# Altium footprint library ROBOCAM_1.PcbLib: 116 footprints (part 2 of 8)
Each footprint in its own frame and in the unit in brackets; x right, y up, seen from the top. Pads: shape width x height; smd on the part's side, far side on the other; paste and mask are expansions set on the pad; w line width, h text height; cw(c..) or ccw(c..) is an arc to the next point about the centre after c.
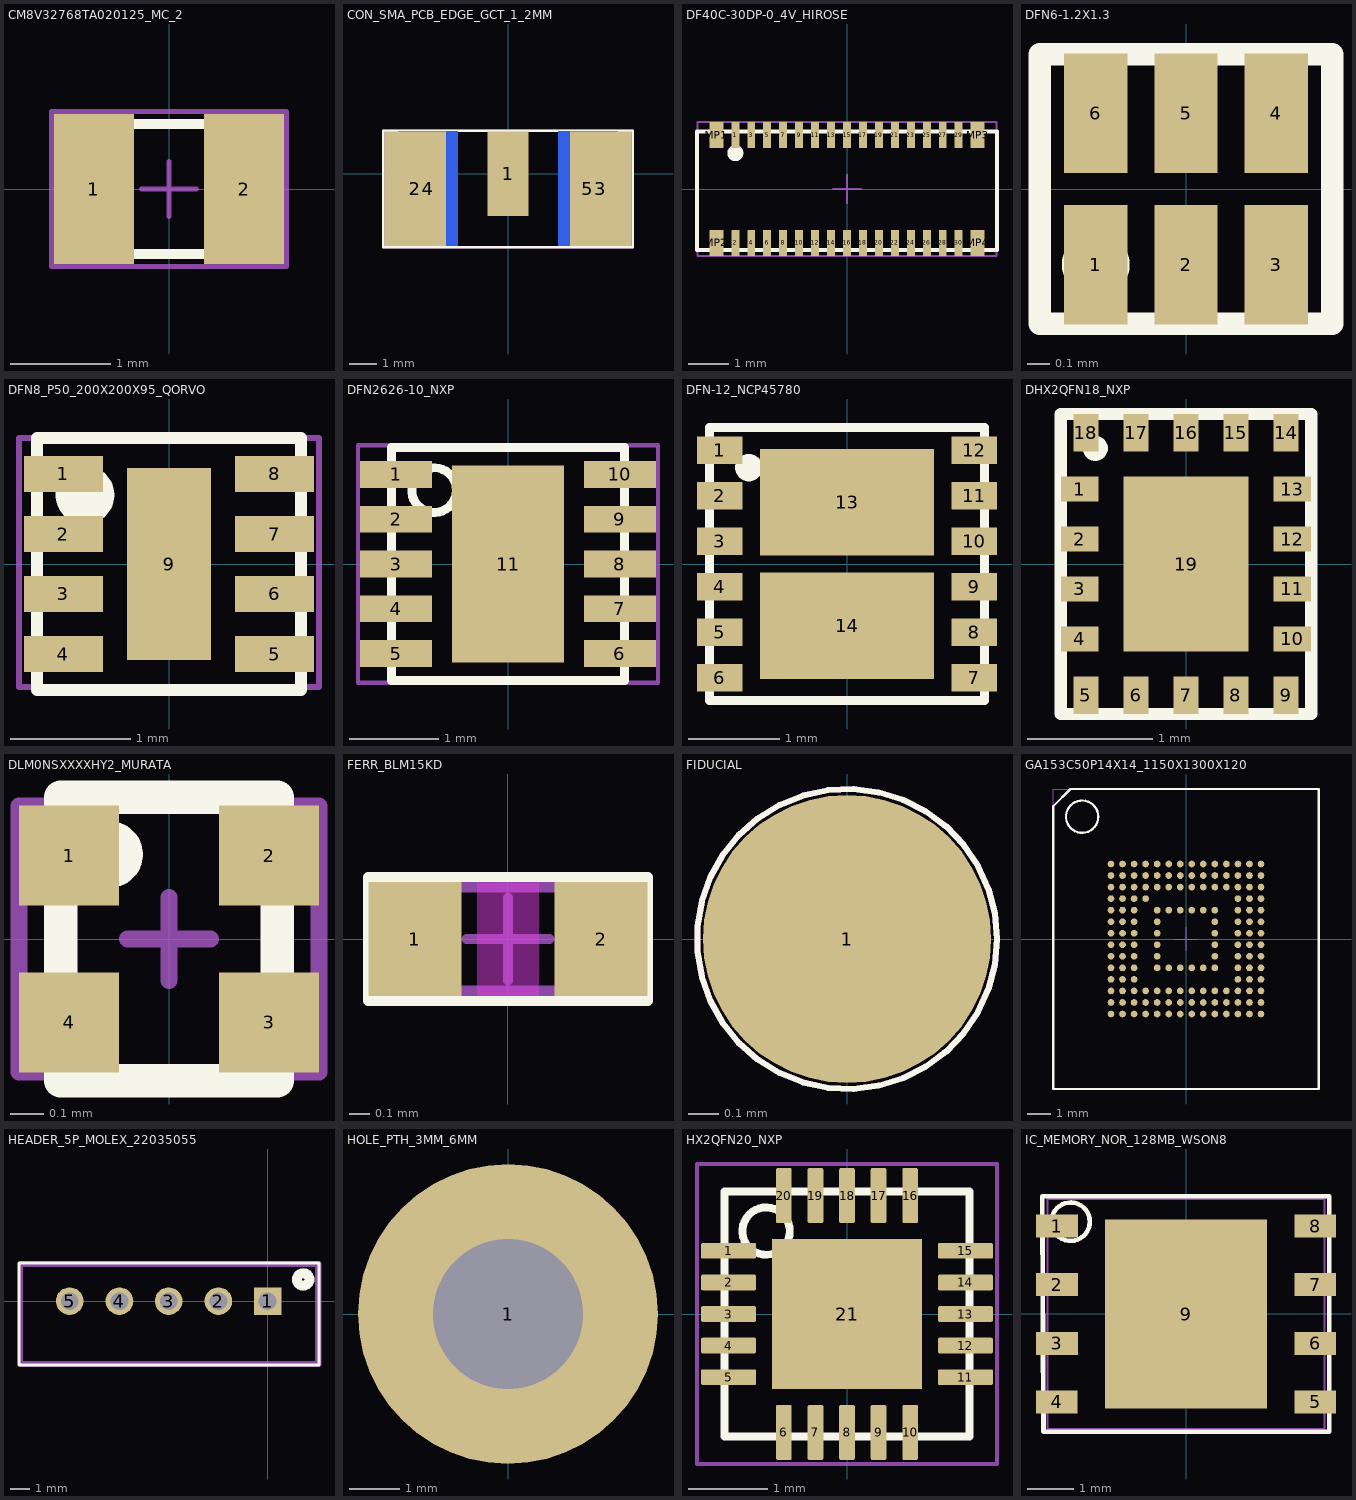
[diagram p1: the footprints below, top view; thin cyan lines are the x and y axes]

## CM8V32768TA020125_MC_2 [mm]
pads (2):
  rect 0.8x1.5 smd paste+0 mask+0.06: 1(-0.75,0) 2(0.75,0)
Top Overlay:
  lines w0.1: -1.05,-0.65 -1.05,0.65 1.025,0.65 1.025,-0.65 -1.05,-0.65
Top Courtyard:
  lines w0.05: -0.275,0 0.275,0 ; 0,-0.275 0,0.275 ; -1.175,-0.775 -1.175,0.775 1.175,0.775 1.175,-0.775 -1.175,-0.775
Top Designator:
  text ".Designator" at -7.618,-0.508 h1.52
3D body "CM8V-T1A.stp": height 0.63, standoff 0.03, extent -1,-0.6 1,0.6

## CON_SMA_PCB_EDGE_GCT_1_2MM [mm] "SMA PCB EDGE, PCB 1.2 MM"
height 11
pads (5):
  rect 1.5x3.1 smd paste-1 mask+0.05: 1(0,0)
  rect 2.25x4.2 smd paste-5 mask+0.05: 2(-3.4,-0.55) 3(3.4,-0.55)
  rect 2.15x4.2 smd far side paste-5 mask+0.05: 4(-2.925,-0.55) 5(2.925,-0.55)
Top Overlay:
  lines w0.1: -4.575,-2.7 -4.575,1.575 4.575,1.575 4.575,-2.7 -4.575,-2.7
Top 3D Body:
  lines w0.1: -4.545,-2.678 -4.545,1.525 ; -2.242,-2.649 -2.242,1.554
Top Courtyard:
  lines w0.1: -4.575,-2.7 4.575,-2.7 4.575,1.575 -4.575,1.575 -4.575,-2.7
Top Designator:
  text ".Designator" at 7.593,6.27 h1.52
3D body "RFPC-SMA23-FN-140_rev1.7.STEP": height 6.03, standoff -4.97, extent -5.525,-2.325 5.475,14.275

## DF40C-30DP-0_4V_HIROSE [mm] "Board to Board Plug 30 pin"
height 1.14
pads (34):
  rect 0.2x0.65 smd paste+0 mask+0.05: 1(-2.8,1.35) 2(-2.8,-1.35) 3(-2.4,1.35) 4(-2.4,-1.35) 5(-2,1.35) 6(-2,-1.35) 7(-1.6,1.35) 8(-1.6,-1.35) 9(-1.2,1.35) 10(-1.2,-1.35) 11(-0.8,1.35) 12(-0.8,-1.35) 13(-0.4,1.35) 14(-0.4,-1.35) 15(0,1.35) 16(0,-1.35) 17(0.4,1.35) 18(0.4,-1.35) 19(0.8,1.35) 20(0.8,-1.35) 21(1.2,1.35) 22(1.2,-1.35) 23(1.6,1.35) 24(1.6,-1.35) 25(2,1.35) 26(2,-1.35) 27(2.4,1.35) 28(2.4,-1.35) 29(2.8,1.35) 30(2.8,-1.35)
  rect 0.35x0.65 smd paste+0 mask+0.05: MP1(-3.275,1.35) MP2(-3.275,-1.35) MP3(3.275,1.35) MP4(3.275,-1.35)
Top Overlay:
  circle w0.2: c-2.8,0.9 r0.1
  lines w0.1: -3.76,-1.525 -3.76,1.445 3.76,1.445 3.76,-1.525 -3.76,-1.525
Top Courtyard:
  lines w0.05: -0.35,0 0.35,0 ; 0,-0.35 0,0.35 ; -3.75,-1.675 -3.75,1.675 3.75,1.675 3.75,-1.675 -3.75,-1.675
Top Designator:
  text ".Designator" at -7.618,-0.508 h1.52
3D body "DF40C-30DP-0.4V_51_.stp": height 1.14, standoff 0, extent -3.76,-1.525 3.76,1.445

## DFN6-1.2X1.3 [mm]
height 0.5
pads (6):
  rect 0.28x0.53 smd paste+0 mask+0.05: 1(-0.4,-0.335) 2(0,-0.335) 3(0.4,-0.335) 4(0.4,0.335) 5(0,0.335) 6(-0.4,0.335)
Top Overlay:
  circle w0.15: c-0.4,-0.335 r0.075
  lines w0.1: -0.648,-0.597 0.648,-0.597 0.648,0.597 -0.648,0.597 -0.648,-0.597
Top Courtyard:
  lines w0.05: -0.648,-0.597 -0.648,0.597 0.648,0.597 0.648,-0.597 -0.648,-0.597
Top Designator:
  text ".Designator" at -7.618,-0.508 h1.52
3D body "LDK220PU50R.stp": height 0.51, standoff 0, extent -0.597,-0.648 0.597,0.648
3D body: height 0.51, standoff 0.4, extent -0.55,-0.55 -0.25,-0.25

## DFN8_P50_200X200X95_QORVO [mm] "DFN8 2x2mm Pitch 0.5 mm"
height 0.95
pads (9):
  rect 0.66x0.3 smd mask+0.05: 1(-0.88,0.75) 2(-0.88,0.25) 3(-0.88,-0.25) 4(-0.88,-0.75) 5(0.88,-0.75) 6(0.88,-0.25) 7(0.88,0.25) 8(0.88,0.75)
  rect 0.7x1.6 smd paste+0 mask+0.05: 9(0,0)
Top Overlay:
  circle w0.25: c-0.7,0.575 r0.12
  lines w0.1: -1.1,-1.05 -1.1,1.05 1.1,1.05 1.1,-1.05 -1.1,-1.05
Top Courtyard:
  lines w0.05: -1.25,-1.025 -1.25,1.05 1.25,1.05 1.25,-1.025 -1.25,-1.025
Top Designator:
  text ".Designator" at -7.618,-0.508 h1.52
3D body "QPL9095SR.stp": height 0.95, standoff 0, extent -1.05,-1 1.05,1
3D body: height 0.94, standoff 0.5, extent -0.925,0.363 -0.075,0.938

## DFN2626-10_NXP [mm] "DFN2626 10 pin pitch 0.5"
height 0.5
pads (11):
  rect 0.8x0.3 smd paste+0 mask+0.05: 1(-1.25,1) 2(-1.25,0.5) 3(-1.25,0) 4(-1.25,-0.5) 5(-1.25,-1) 6(1.25,-1) 7(1.25,-0.5) 8(1.25,0) 9(1.25,0.5) 10(1.25,1)
  rect 1.25x2.2 smd paste-2539.97 mask+0.06: 11(0,0)
Top Overlay:
  circle w0.1: c-0.825,0.825 r0.25
  lines w0.1: -1.3,-1.3 1.3,-1.3 1.3,1.3 -1.3,1.3 -1.3,-1.3
Top Paste:
  region: -0.2,-0.4 -0.2,0.4 0.2,0.4 0.2,-0.4
Top Courtyard:
  lines w0.05: -0.275,0 0.275,0 ; 0,-0.275 0,0.275 ; -1.675,-1.325 1.675,-1.325 1.675,1.325 -1.675,1.325 -1.675,-1.325
Top Designator:
  text ".Designator" at 7.618,0.508 h1.52
3D body: height 0.49, standoff 0.4, extent -1.15,0.75 -0.75,1.15
3D body "PCF85063ATL_1,118.stp": height 0.5, standoff 0, extent -1.35,-1.3 1.35,1.3

## DFN-12_NCP45780 [mm]
height 1
pads (14):
  rect 0.5x0.3 smd paste+0 mask+0.05: 1(-1.4,1.25) 2(-1.4,0.75) 3(-1.4,0.25) 4(-1.4,-0.25) 5(-1.4,-0.75) 6(-1.4,-1.25) 7(1.4,-1.25) 8(1.4,-0.75) 9(1.4,-0.25) 10(1.4,0.25) 11(1.4,0.75) 12(1.4,1.25)
  rect 1.91x1.17 smd paste+0 mask+0.05: 13(0,0.68) 14(0,-0.68)
Top Overlay:
  lines w0.1: -1.511,-1.5 1.511,-1.5 1.511,1.5 -1.511,1.5 -1.511,-1.5
  lines w0.2: -1.08,1.01 ccw(c-1.08,1.06) -1.08,1.11 ccw(c-1.08,1.06) -1.08,1.01
Top Courtyard:
  lines w0.05: -1.511,-1.5 1.511,-1.5 1.511,1.5 -1.511,1.5 -1.511,-1.5
Top Designator:
  text ".Designator" at -7.618,-0.508 h1.52
3D body: height 0.84, standoff 0.5, extent -1.28,0.86 -0.88,1.26
3D body "NCP45780IMN24RTWG.stp": height 0.85, standoff -0.05, extent -1.511,-1.5 1.511,1.5

## DHX2QFN18_NXP [mm] "DHX2QFN18 NXP"
height 0.35
pads (19):
  rect 0.3x0.2 smd paste+0 mask+0.05: 1(-0.85,0.6) 2(-0.85,0.2) 3(-0.85,-0.2) 4(-0.85,-0.6) 10(0.85,-0.6) 11(0.85,-0.2) 12(0.85,0.2) 13(0.85,0.6)
  rect 0.2x0.3 smd paste+0 mask+0.05: 5(-0.8,-1.05) 6(-0.4,-1.05) 7(0,-1.05) 8(0.4,-1.05) 9(0.8,-1.05) 14(0.8,1.05) 15(0.4,1.05) 16(0,1.05) 17(-0.4,1.05) 18(-0.8,1.05)
  rect 1x1.4 smd paste+0 mask+0.05: 19(0,0)
Top Overlay:
  lines w0.1: -1,-1.2 -1,1.2 1,1.2 1,-1.2 -1,-1.2 ; -0.775,0.925 cw(c-0.725,0.925) -0.675,0.925 cw(c-0.725,0.925) -0.775,0.925
Top Courtyard:
  lines w0.05: -0.275,0 0.275,0 ; 0,-0.275 0,0.275 ; -1,-1.2 1,-1.2 1,1.2 -1,1.2 -1,-1.2
Top Designator:
  text ".Designator" at 7.618,0.508 h1.52
3D body "PTN36043ABXY.stp": height 0.35, standoff 0, extent -1,-1.2 1,1.2
3D body: height 0.35, standoff 0.25, extent -0.875,0.775 -0.575,1.075

## DLM0NSXXXXHY2_MURATA [mm] "SMD 0.85x0.65x0.50mm"
height 0.5
pads (4):
  rect 0.3x0.3 smd paste+0 mask+0.05: 1(-0.3,0.25) 2(0.3,0.25) 3(0.3,-0.25) 4(-0.3,-0.25)
Top Overlay:
  circle w0.1: c-0.178,0.254 r0.05
  lines w0.1: -0.325,-0.425 0.325,-0.425 0.325,0.425 -0.325,0.425 -0.325,-0.425
Top Courtyard:
  lines w0.05: -0.125,0 0.125,0 ; 0,-0.125 0,0.125 ; -0.45,-0.4 -0.45,0.4 0.45,0.4 0.45,-0.4 -0.45,-0.4
Top Designator:
  text ".Designator" at 7.618,0.508 h1.52
3D body "step_temp.STEP": height 0.5, standoff 0, extent -0.325,-0.425 0.325,0.425

## FERR_BLM15KD [mm] "Chip Resistor, Body 1.0x0.5mm, IPC High Density"
height 0.55
pads (2):
  rect 0.45x0.55 smd mask+0.05: 1(-0.45,0) 2(0.45,0)
Top Layer keep-out:
  rectangle: -0.15,-0.276 0.15,0.274
Top Overlay:
  lines w0.05: -0.675,-0.3 0.675,-0.3 0.675,0.3 -0.675,0.3 -0.675,-0.3
Top 3D Body:
  lines w0.05: -0.525,-0.25 0.525,-0.25 0.525,0.25 -0.525,0.25 -0.525,-0.25
Top Courtyard:
  lines w0.02: -0.675,-0.275 0.675,-0.275 0.675,0.275 -0.675,0.275 -0.675,-0.275
  lines w0.05: -0.2,0 0.2,0 ; 0,-0.2 0,0.2
Top Designator:
  text ".Designator" at 7.618,0.508 h1.52
3D body: height 0.55, standoff 0, extent -0.65,-0.275 0.65,0.275

## FIDUCIAL [mm] "Fiducial 0.98 mm"
height 1.42
pads (1):
  round 0.96 smd paste-0.5 mask+0.8: 1(0,0)
Top Overlay:
  circle w0.02: c0,0 r0.5
Top Courtyard:
  circle w0.02: c0,0 r0.5
Top Designator:
  text ".Designator" at 7.618,0.508 h1.52
3D body: height 0.02, standoff 0, extent -0.476,-0.479 0.48,0.479

## GA153C50P14X14_1150X1300X120 [mm]
height 1.2
pads (153):
  round 0.29 smd paste+0 mask+0.05: A1(-3.25,3.25) A2(-2.75,3.25) A3(-2.25,3.25) A4(-1.75,3.25) A5(-1.25,3.25) A6(-0.75,3.25) A7(-0.25,3.25) A8(0.25,3.25) A9(0.75,3.25) A10(1.25,3.25) A11(1.75,3.25) A12(2.25,3.25) A13(2.75,3.25) A14(3.25,3.25) B1(-3.25,2.75) B2(-2.75,2.75) B3(-2.25,2.75) B4(-1.75,2.75) B5(-1.25,2.75) B6(-0.75,2.75) B7(-0.25,2.75) B8(0.25,2.75) B9(0.75,2.75) B10(1.25,2.75) B11(1.75,2.75) B12(2.25,2.75) B13(2.75,2.75) B14(3.25,2.75) C1(-3.25,2.25) C2(-2.75,2.25) C3(-2.25,2.25) C4(-1.75,2.25) C5(-1.25,2.25) C6(-0.75,2.25) C7(-0.25,2.25) C8(0.25,2.25) C9(0.75,2.25) C10(1.25,2.25) C11(1.75,2.25) C12(2.25,2.25) C13(2.75,2.25) C14(3.25,2.25) D1(-3.25,1.75) D2(-2.75,1.75) D3(-2.25,1.75) D4(-1.75,1.75) D12(2.25,1.75) D13(2.75,1.75) D14(3.25,1.75) E1(-3.25,1.25) E2(-2.75,1.25) E3(-2.25,1.25) E5(-1.25,1.25) E6(-0.75,1.25) E7(-0.25,1.25) E8(0.25,1.25) E9(0.75,1.25) E10(1.25,1.25) E12(2.25,1.25) E13(2.75,1.25) E14(3.25,1.25) F1(-3.25,0.75) F2(-2.75,0.75) F3(-2.25,0.75) F5(-1.25,0.75) F10(1.25,0.75) F12(2.25,0.75) F13(2.75,0.75) F14(3.25,0.75) G1(-3.25,0.25) G2(-2.75,0.25) G3(-2.25,0.25) G5(-1.25,0.25) G10(1.25,0.25) G12(2.25,0.25) G13(2.75,0.25) G14(3.25,0.25) H1(-3.25,-0.25) H2(-2.75,-0.25) H3(-2.25,-0.25) H5(-1.25,-0.25) H10(1.25,-0.25) H12(2.25,-0.25) H13(2.75,-0.25) H14(3.25,-0.25) J1(-3.25,-0.75) J2(-2.75,-0.75) J3(-2.25,-0.75) J5(-1.25,-0.75) J10(1.25,-0.75) J12(2.25,-0.75) J13(2.75,-0.75) J14(3.25,-0.75) K1(-3.25,-1.25) K2(-2.75,-1.25) K3(-2.25,-1.25) K5(-1.25,-1.25) K6(-0.75,-1.25) K7(-0.25,-1.25) K8(0.25,-1.25) K9(0.75,-1.25) K10(1.25,-1.25) K12(2.25,-1.25) K13(2.75,-1.25) K14(3.25,-1.25) L1(-3.25,-1.75) L2(-2.75,-1.75) L3(-2.25,-1.75) L12(2.25,-1.75) L13(2.75,-1.75) L14(3.25,-1.75) M1(-3.25,-2.25) M2(-2.75,-2.25) M3(-2.25,-2.25) M4(-1.75,-2.25) M5(-1.25,-2.25) M6(-0.75,-2.25) M7(-0.25,-2.25) M8(0.25,-2.25) M9(0.75,-2.25) M10(1.25,-2.25) M11(1.75,-2.25) M12(2.25,-2.25) M13(2.75,-2.25) M14(3.25,-2.25) N1(-3.25,-2.75) N2(-2.75,-2.75) N3(-2.25,-2.75) N4(-1.75,-2.75) N5(-1.25,-2.75) N6(-0.75,-2.75) N7(-0.25,-2.75) N8(0.25,-2.75) N9(0.75,-2.75) N10(1.25,-2.75) N11(1.75,-2.75) N12(2.25,-2.75) N13(2.75,-2.75) N14(3.25,-2.75) P1(-3.25,-3.25) P2(-2.75,-3.25) P3(-2.25,-3.25) P4(-1.75,-3.25) P5(-1.25,-3.25) P6(-0.75,-3.25) P7(-0.25,-3.25) P8(0.25,-3.25) P9(0.75,-3.25) P10(1.25,-3.25) P11(1.75,-3.25) P12(2.25,-3.25) P13(2.75,-3.25) P14(3.25,-3.25)
Top Overlay:
  circle w0.1: c-4.5,5.3 r0.7
  lines w0.1: -5.75,-6.5 -5.75,5.75 -5,6.5 5.75,6.5 5.75,-6.5 -5.75,-6.5
Top Courtyard:
  lines w0.05: -0.5,0 0.5,0 ; 0,-0.5 0,0.5 ; -5.75,-6.5 -5.75,6.5 5.75,6.5 5.75,-6.5 -5.75,-6.5
Top Designator:
  text ".Designator" at -7.618,-0.508 h1.52
3D body "SDINBDG4-32G-ZA.stp": height 1, standoff 0, extent -5.75,-6.5 5.75,6.5
3D body: height 1.21, standoff 1.11, extent -5.1,4.25 -3.5,5.85
3D body: height 1.2, standoff 1, extent -5.75,-6.5 5.75,6.5

## HEADER_5P_MOLEX_22035055 [mm] "Headers & Wire Housings 2.5 VERT HDR SPOX 5 shrouded"
height 5.9
pads (5):
  rect 1.4x1.4 hole 0.9 mask+0.1: 1(0,0)
  round 1.4 hole 0.9 mask+0.1: 2(-2.489,0) 3(-5.004,0) 4(-7.493,0) 5(-10.008,0)
Top Overlay:
  circle w0.5: c1.8,1.1 r0.316
  lines w0.152: -12.573,-3.226 2.591,-3.226 2.591,1.93 -12.573,1.93 -12.573,-3.226
Top 3D Body:
  lines w0.152: -12.446,-3.099 2.464,-3.099 2.464,1.803 -12.446,1.803 -12.446,-3.099
Top Courtyard:
  lines w0.254: -12.5,-3.2 -12.5,1.9 2.6,1.9 2.6,-3.2 -12.5,-3.2
Top Designator:
  text ".Designator" at -12.579,-1.158 h1.52
3D body "022035055.stp": height 5.9, standoff -3.5, extent -12.45,-3.1 2.45,1.8

## HOLE_PTH_3MM_6MM [mm] "HOLE PTH hole=3mm, copper=6mm"
height 1.42
pads (1):
  round 6 hole 3 mask+0: 1(0,0)
Top Designator:
  text ".Designator" at 7.618,0.508 h1.52

## HX2QFN20_NXP [mm] "HX2QFN20 NXP"
height 0.5
pads (21):
  rrect25% 0.7x0.2 smd paste+0 mask+0.05: 1(-1.5,0.8) 2(-1.5,0.4) 3(-1.5,0) 4(-1.5,-0.4) 5(-1.5,-0.8) 11(1.5,-0.8) 12(1.5,-0.4) 13(1.5,0) 14(1.5,0.4) 15(1.5,0.8)
  rrect25% 0.2x0.7 smd paste+0 mask+0.05: 6(-0.8,-1.5) 7(-0.4,-1.5) 8(0,-1.5) 9(0.4,-1.5) 10(0.8,-1.5) 16(0.8,1.5) 17(0.4,1.5) 18(0,1.5) 19(-0.4,1.5) 20(-0.8,1.5)
  rect 1.9x1.9 smd paste-0.2 mask+0.05: 21(0,0)
Top Overlay:
  circle w0.1: c-1.025,1.05 r0.3
  lines w0.1: -1.55,-1.55 -1.55,1.55 1.55,1.55 1.55,-1.55 -1.55,-1.55
Top Courtyard:
  lines w0.05: -1.9,-1.9 1.9,-1.9 1.9,1.9 -1.9,1.9 -1.9,-1.9
Top Designator:
  text ".Designator" at 7.618,0.508 h1.52
3D body: height 0.34, standoff 0.33, extent -1.3,1.1 -1.1,1.3
3D body "SE050.STEP": height 0.33, standoff 0, extent -1.5,-1.5 1.5,1.5

## IC_MEMORY_NOR_128MB_WSON8 [mm]
height 0.95
pads (9):
  rect 0.9x0.5 smd paste+0 mask+0.05: 1(-2.795,1.905) 2(-2.795,0.635) 3(-2.795,-0.635) 4(-2.8,-1.905) 5(2.8,-1.905) 6(2.8,-0.635) 7(2.8,0.635) 8(2.8,1.905)
  rect 3.5x4.1 smd paste-3 mask+0.05: 9(0,0)
Top Overlay:
  circle w0.1: c-2.5,2 r0.416
  lines w0.1: -3.113,2.55 -3.087,-2.55 3.1,-2.55 3.1,2.55 -3.113,2.55
Top Paste:
  rectangle: -1.7,-0.55 -0.1,0.55
  rectangle: 0.1,-0.55 1.7,0.55
  rectangle: 0.1,0.9 1.7,2
  rectangle: -1.7,0.9 -0.1,2
  rectangle: -1.7,-2 -0.1,-0.9
  rectangle: 0.1,-2 1.7,-0.9
Top Courtyard:
  lines w0.05: -0.5,0 0.5,0 ; 0,-0.5 0,0.5 ; -3,-2.5 3,-2.5 3,2.5 -3,2.5 -3,-2.5
Top Designator:
  text ".Designator" at -7.618,-0.508 h1.52
3D body: height 0.81, standoff 0.7, extent -2.85,1.6 -2.05,2.4
3D body: height 0.8, standoff 0.05, extent -3.025,-2.488 3.025,2.488